# EAGLE library part MAX6817EUT+T (library JayCollett)
Maxim MAX6817 SMD dual debounce chip. http://datasheets.maxim-ic.com/en/ds/MAX6816-MAX6818.pdf
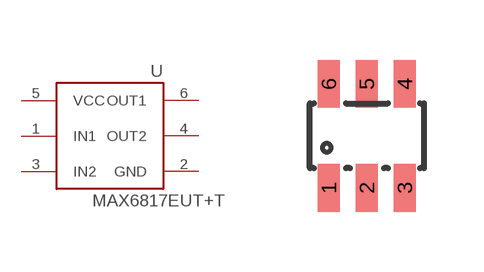
[diagram p0: symbol with the pads of SOT-23-6; footprint SOT-23-6]

Designator prefix -

## MAX6817EUT+T  [SOT-23-6]
1  IN1
2  GND  pwr
3  IN2
4  OUT2
5  VCC  pwr
6  OUT1

## Footprint SOT-23-6 (pad centres in mm)
smd 0.55 x 1.2: 1 -0.95,-1.3; 2 0,-1.3; 3 0.95,-1.3; 4 0.95,1.3; 5 0,1.3; 6 -0.95,1.3